# EAGLE library part CDCVF2310PW (library xess)
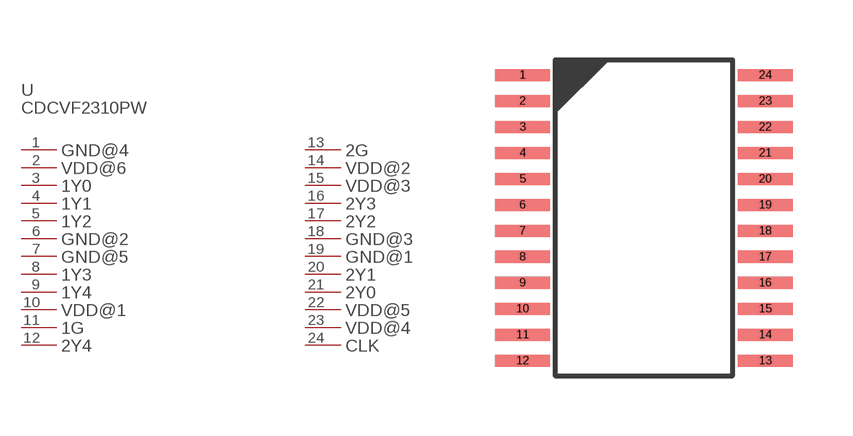
[diagram p71: symbol with the pads of CDCVF2310PW; footprint CDCVF2310PW]

Designator prefix U; gates PART_VALUE=PART_VALUE-CDCVF2310PW GND@4=PL-CDCVF2310PW VDD@6=PL-CDCVF2310PW 1Y0=PL-CDCVF2310PW 1Y1=PL-CDCVF2310PW 1Y2=PL-CDCVF2310PW GND@2=PL-CDCVF2310PW GND@5=PL-CDCVF2310PW 1Y3=PL-CDCVF2310PW 1Y4=PL-CDCVF2310PW VDD@1=PL-CDCVF2310PW 1G=PL-CDCVF2310PW 2Y4=PL-CDCVF2310PW 2G=PL-CDCVF2310PW VDD@2=PL-CDCVF2310PW VDD@3=PL-CDCVF2310PW 2Y3=PL-CDCVF2310PW 2Y2=PL-CDCVF2310PW GND@3=PL-CDCVF2310PW GND@1=PL-CDCVF2310PW 2Y1=PL-CDCVF2310PW 2Y0=PL-CDCVF2310PW VDD@5=PL-CDCVF2310PW VDD@4=PL-CDCVF2310PW CLK=PL-CDCVF2310PW

## CDCVF2310PW  [CDCVF2310PW]
1  GND@4:P$1
2  VDD@6:P$1
3  1Y0:P$1
4  1Y1:P$1
5  1Y2:P$1
6  GND@2:P$1
7  GND@5:P$1
8  1Y3:P$1
9  1Y4:P$1
10  VDD@1:P$1
11  1G:P$1
12  2Y4:P$1
13  2G:P$1
14  VDD@2:P$1
15  VDD@3:P$1
16  2Y3:P$1
17  2Y2:P$1
18  GND@3:P$1
19  GND@1:P$1
20  2Y1:P$1
21  2Y0:P$1
22  VDD@5:P$1
23  VDD@4:P$1
24  CLK:P$1

## Footprint CDCVF2310PW (pad centres in mm)
smd 1.37 x 0.3: 1 -0.11,0; 2 -0.11,-0.65; 3 -0.11,-1.3; 4 -0.11,-1.95; 5 -0.11,-2.6; 6 -0.11,-3.25; 7 -0.11,-3.9; 8 -0.11,-4.55; 9 -0.11,-5.2; 10 -0.11,-5.85; 11 -0.11,-6.5; 12 -0.11,-7.15; 13 5.96,-7.15; 14 5.96,-6.5; 15 5.96,-5.85; 16 5.96,-5.2; 17 5.96,-4.55; 18 5.96,-3.9; 19 5.96,-3.25; 20 5.96,-2.6; 21 5.96,-1.95; 22 5.96,-1.3; 23 5.96,-0.65; 24 5.96,0